# EAGLE library part U891B (library raritaeten)
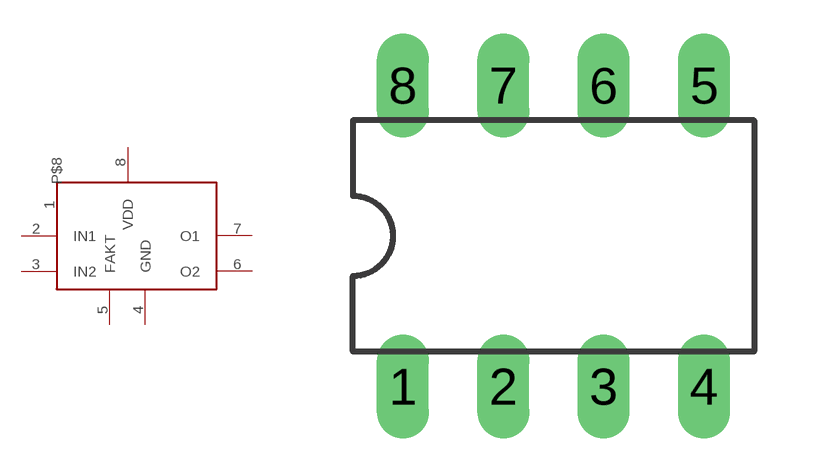
[diagram p2: symbol with the pads of DIL08; footprint DIL08]

Designator prefix -

## U891B  [DIL08]
1  P$8  nc
2  IN1  in
3  IN2  in
4  GND  pwr
5  FAKT  pwr
6  O2  in
7  O1  in
8  VDD  pwr

## Footprint DIL08 (pad centres in mm)
Prescaler for TV and VTR purposes U891
drill 0.813 long: 1 -3.81,-3.81; 2 -1.27,-3.81; 3 1.27,-3.81; 4 3.81,-3.81; 5 3.81,3.81; 6 1.27,3.81; 7 -1.27,3.81; 8 -3.81,3.81